# EAGLE library part LOGGER_MASTER (library mbed-microcontroller)
Datenlogger
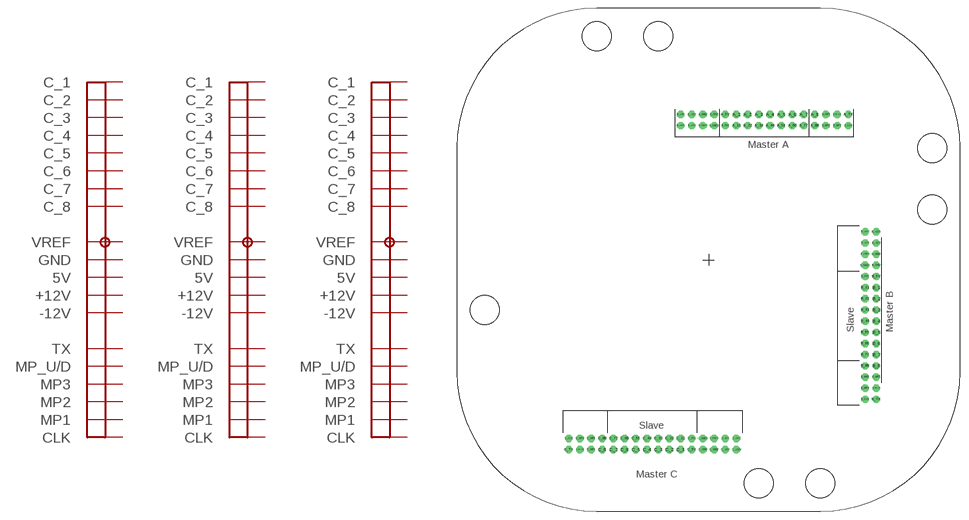
[diagram p13: symbol with the pads of LOGGER_SHIELD; footprint LOGGER_SHIELD]

Designator prefix -; gates G$1=LOGGER_MASTER G$2=LOGGER_MASTER G$3=LOGGER_MASTER

## LOGGER_MASTER  [LOGGER_SHIELD]
A_1  G$1:C_1
A_2  G$1:C_2
A_3  G$1:C_3
A_4  G$1:C_4
A_5  G$1:C_5
A_5V  G$1:5V
A_5V1  G$1:5V
A_6  G$1:C_6
A_7  G$1:C_7
A_8  G$1:C_8
A_11  G$1:C_1
A_22  G$1:C_2
A_33  G$1:C_3
A_44  G$1:C_4
A_55  G$1:C_5
A_66  G$1:C_6
A_77  G$1:C_7
A_88  G$1:C_8
A_+12  G$1:+12V
A_+12V1  G$1:+12V
A_-12V  G$1:-12V
A_-12V1  G$1:-12V
A_CLK  G$1:CLK
A_GND  G$1:GND
A_GND1  G$1:GND
A_MP1  G$1:MP1
A_MP2  G$1:MP2
A_MP3  G$1:MP3
A_MP_U/D  G$1:MP_U/D
A_TX  G$1:TX
A_VREF  G$1:VREF
A_VREF1  G$1:VREF
B_1  G$2:C_1
B_2  G$2:C_2
B_3  G$2:C_3
B_4  G$2:C_4
B_5  G$2:C_5
B_5V  G$2:5V
B_5V1  G$2:5V
B_6  G$2:C_6
B_7  G$2:C_7
B_8  G$2:C_8
B_11  G$2:C_1
B_22  G$2:C_2
B_33  G$2:C_3
B_44  G$2:C_4
B_55  G$2:C_5
B_66  G$2:C_6
B_77  G$2:C_7
B_88  G$2:C_8
B_+12V  G$2:+12V
B_+12V1  G$2:+12V
B_-12V  G$2:-12V
B_-12V1  G$2:-12V
B_CLK  G$2:CLK
B_GND  G$2:GND
B_GND1  G$2:GND
B_MP1  G$2:MP1
B_MP2  G$2:MP2
B_MP3  G$2:MP3
B_MP_U/D  G$2:MP_U/D
B_TX  G$2:TX
B_VREF  G$2:VREF
B_VREF1  G$2:VREF
C_1  G$3:C_1
C_2  G$3:C_2
C_3  G$3:C_3
C_4  G$3:C_4
C_5  G$3:C_5
C_5V  G$3:5V
C_5V1  G$3:5V
C_6  G$3:C_6
C_7  G$3:C_7
C_8  G$3:C_8
C_11  G$3:C_1
C_22  G$3:C_2
C_33  G$3:C_3
C_44  G$3:C_4
C_55  G$3:C_5
C_66  G$3:C_6
C_77  G$3:C_7
C_88  G$3:C_8
C_+12V  G$3:+12V
C_+12V1  G$3:+12V
C_-12V  G$3:-12V
C_-12V1  G$3:-12V
C_CLK  G$3:CLK
C_GND  G$3:GND
C_GND1  G$3:GND
C_MP1  G$3:MP1
C_MP2  G$3:MP2
C_MP3  G$3:MP3
C_MP_U/D  G$3:MP_U/D
C_TX  G$3:TX
C_VREF  G$3:VREF
C_VREF1  G$3:VREF

## Footprint LOGGER_SHIELD (pad centres in mm)
drill 0.8 octagon: A_1 5,26; A_2 7,26; A_3 9,26; A_4 11,26; A_5 13,26; A_5V 3,26; A_5V1 3,24; A_6 15,26; A_7 17,26; A_8 19,26; A_11 5,24; A_22 7,24; A_33 9,24; A_44 11,24; A_55 13,24; A_66 15,24; A_77 17,24; A_88 19,24; A_+12 -5,26; A_+12V1 -5,24; A_-12V -3,26; A_-12V1 -3,24; A_CLK 25,24; A_GND 1,26; A_GND1 1,24; A_MP1 21,26; A_MP2 21,24; A_MP3 23,24; A_MP_U/D 23,26; A_TX 25,26; A_VREF -1,26; A_VREF1 -1,24; B_1 30,-5; B_2 30,-7; B_3 30,-9; B_4 30,-11; B_5 30,-13; B_5V 30,-3; B_5V1 28,-3; B_6 30,-15; B_7 30,-17; B_8 30,-19; B_11 28,-5; B_22 28,-7; B_33 28,-9; B_44 28,-11; B_55 28,-13; B_66 28,-15; B_77 28,-17; B_88 28,-19; B_+12V 30,5; B_+12V1 28,5; B_-12V 30,3; B_-12V1 28,3; B_CLK 28,-25; B_GND 30,-1; B_GND1 28,-1; B_MP1 30,-21; B_MP2 28,-21; B_MP3 28,-23; B_MP_U/D 30,-23; B_TX 30,-25; B_VREF 30,1; B_VREF1 28,1; C_1 -5,-34; C_2 -7,-34; C_3 -9,-34; C_4 -11,-34; C_5 -13,-34; C_5V -3,-34; C_5V1 -3,-32; C_6 -15,-34; C_7 -17,-34; C_8 -19,-34; C_11 -5,-32; C_22 -7,-32; C_33 -9,-32; C_44 -11,-32; C_55 -13,-32; C_66 -15,-32; C_77 -17,-32; C_88 -19,-32; C_+12V 5,-34; C_+12V1 5,-32; C_-12V 3,-34; C_-12V1 3,-32; C_CLK -25,-32; C_GND -1,-34; C_GND1 -1,-32; C_MP1 -21,-34; C_MP2 -21,-32; C_MP3 -23,-32; C_MP_U/D -23,-34; C_TX -25,-34; C_VREF 1,-34; C_VREF1 1,-32